# EAGLE library part LM358DR (library LM358DR)
LM358DR, Operational Amplifier 0.7MHz 5 to 28V, 8-Pin SOIC Source: Datasheet <https://www.ti.com/lit/ds/symlink/lm358.pdf?ts=1593170624750&ref_url=https%3A%2F%2Fwww.ti.com%2Fstore%2Fti%2Fen%2Fp%2Fproduct%2F%3Fp%3DLM358DR%26keyMatch%3DLM358DR%26tisearch%3DSearch-EN-everything%26usecase%3DOPN>
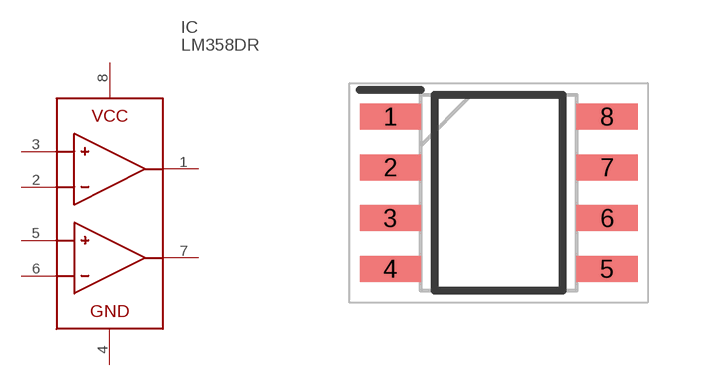
[diagram p0: symbol with the pads of SOIC127P600X175-8N; footprint SOIC127P600X175-8N]

Designator prefix IC

## LM358DR (Description: LM358DR, Operational Amplifier 0.7MHz 5 to 28V, 8-Pin SOIC; Height: 1.75mm; Manufacturer_Name: Texas Instruments; Manufacturer_Part_Number: LM358DR; Mouser_Part_Number: 595-LM358DR; Mouser_Price-Stock: https://www.mouser.co.uk/ProductDetail/Texas-Instruments/LM358DR?qs=Zu35EjizYSSY6pJ37yjmHA%3D%3D)  [SOIC127P600X175-8N]
1  OUT1
2  IN1-
3  IN1+
4  V-
5  IN2+
6  IN2-
7  OUT2
8  V+

## Footprint SOIC127P600X175-8N (pad centres in mm)
D0008A
smd 1.528 x 0.65: 1 -2.711,1.905; 2 -2.711,0.635; 3 -2.711,-0.635; 4 -2.711,-1.905; 5 2.711,-1.905; 6 2.711,-0.635; 7 2.711,0.635; 8 2.711,1.905